# Altium footprint library pol.PcbLib: 1 footprints
Each footprint in its own frame and in the unit in brackets; x right, y up, seen from the top. Pads: shape width x height; smd on the part's side, far side on the other; paste and mask are expansions set on the pad; w line width, h text height; cw(c..) or ccw(c..) is an arc to the next point about the centre after c.
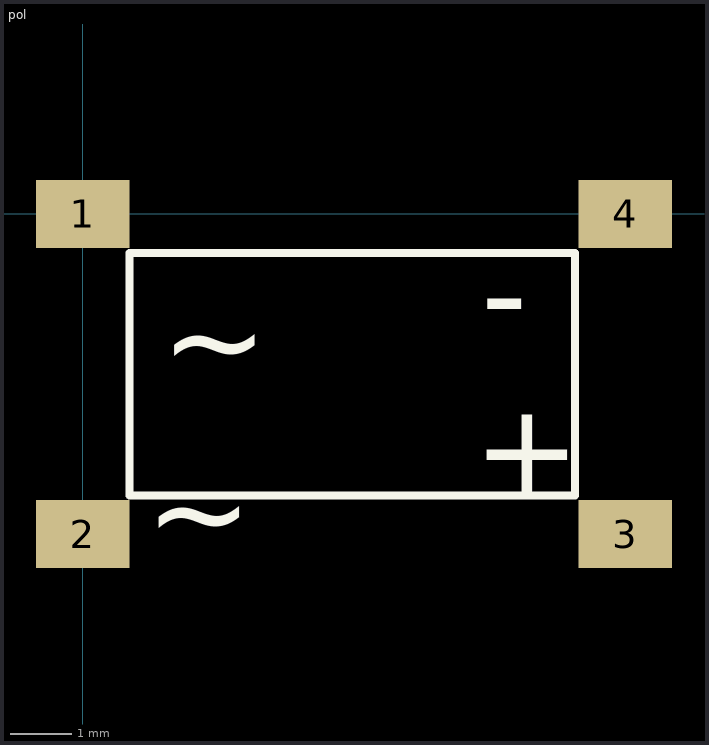
[diagram p0: the footprint, top view; thin cyan lines are the x and y axes]

## pol [mm]
pads (4):
  rect 1.52x1.1 smd: 1(0,0) 2(0,-5.2) 3(8.82,-5.2) 4(8.82,0)
Top Overlay:
  lines w0.127: 0.762,-4.572 0.762,-0.635 8.001,-0.635 8.001,-4.572 0.762,-4.572
  text "~" at 1.27,-2.794 h1.52
  text "~" at 1.016,-5.588 h1.52
  text "+" at 6.35,-4.572 h1.52
  text "-" at 6.477,-2.032 h1.52